# Altium schematic symbol library ECS-100AX-036.SchLib: 1 symbol
Pins are listed as number, name and electrical type; pins without a type are passive.

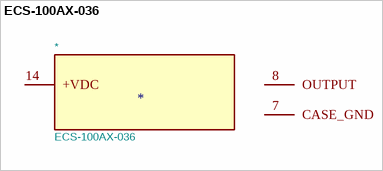
[diagram p0: symbol ECS-100AX-036]

## ECS-100AX-036
designator *  value ECS-100AX-036
MANUFACTURER: ECS Inc.; Footprint: ECS-100AX-036:OSC_ECS-100AX-036; STANDARD: MANUFACTURER RECOMMENDATIONS
footprint OSC_ECS-100AX-036
pins: 7 CASE_GND, 8 OUTPUT, 14 +VDC